# EAGLE library part CD4049UBCN (library Fairchild_By_element14_Batch_1)
Hex Inverting Buffer
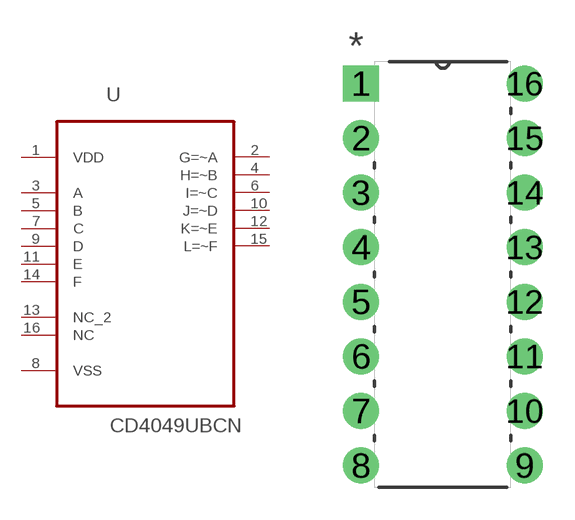
[diagram p157: symbol with the pads of DIP254P762X508-16; footprint DIP254P762X508-16]

Designator prefix U

## CD4049UBCN (MPN: CD4049UBCN; OC_FARNELL: 1014038; OC_NEWARK: 58K0156; PACKAGE: PDIP-16; SUPPLIER: Fairchild)  [DIP254P762X508-16]
1  VDD  pwr
2  G=~A  out
3  A  in
4  H=~B  out
5  B  in
6  I=~C  out
7  C  in
8  VSS  pwr
9  D  in
10  J=~D  out
11  E  in
12  K=~E  out
13  NC_2  nc
14  F  in
15  L=~F  out
16  NC  nc

## Footprint DIP254P762X508-16 (pad centres in mm)
drill 1.118 square: 1 -7.62,17.78
drill 1.118: 2 -7.62,15.24; 3 -7.62,12.7; 4 -7.62,10.16; 5 -7.62,7.62; 6 -7.62,5.08; 7 -7.62,2.54; 8 -7.62,0; 9 0,0; 10 0,2.54; 11 0,5.08; 12 0,7.62; 13 0,10.16; 14 0,12.7; 15 0,15.24; 16 0,17.78